# Altium footprint library led_ring.PcbLib: 7 footprints
Each footprint in its own frame and in the unit in brackets; x right, y up, seen from the top. Pads: shape width x height; smd on the part's side, far side on the other; paste and mask are expansions set on the pad; w line width, h text height; cw(c..) or ccw(c..) is an arc to the next point about the centre after c.
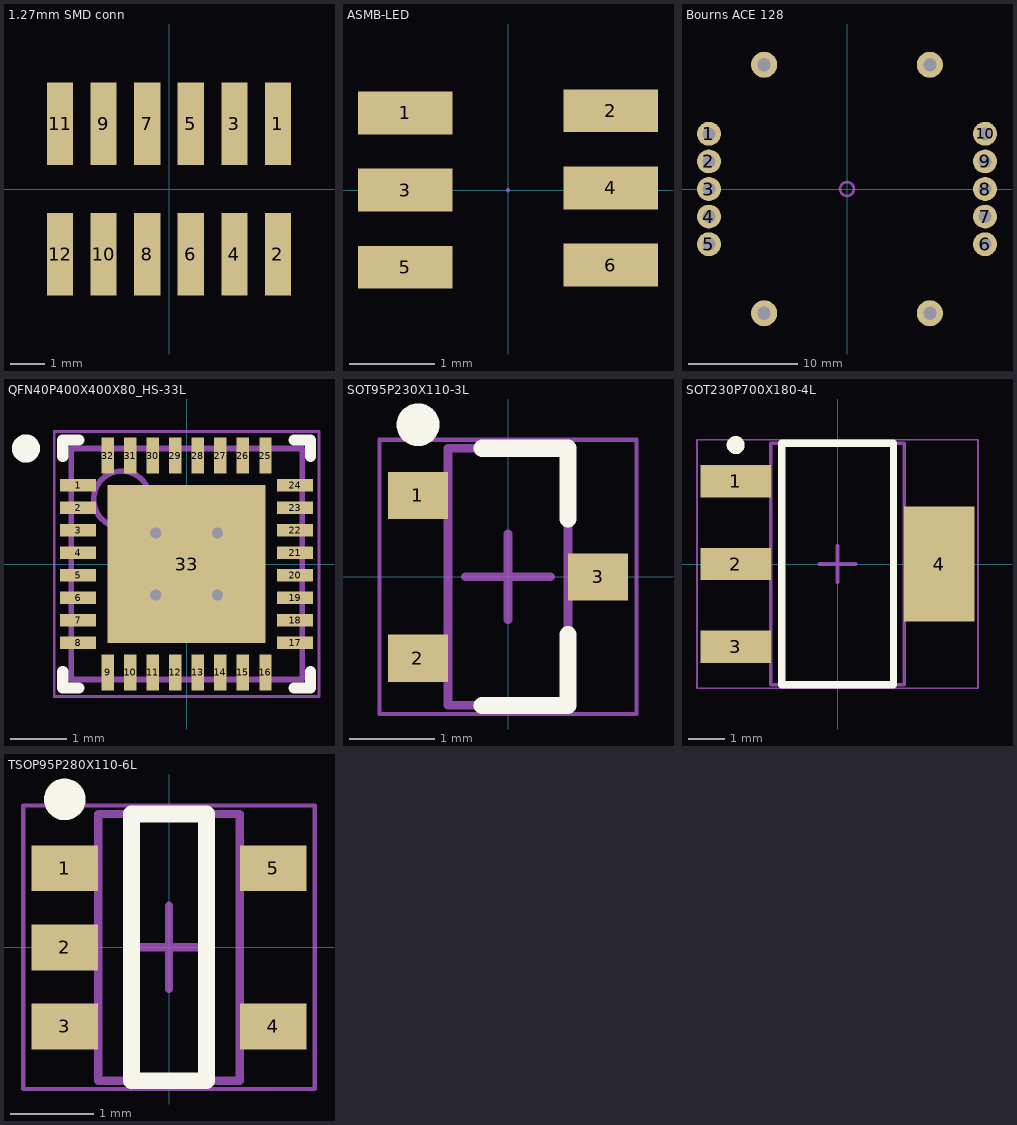
[diagram p0: the footprints below, top view; thin cyan lines are the x and y axes]

## 1.27mm SMD conn [mm]
pads (12):
  rect 0.76x2.4 smd: 1(3.175,1.905) 2(3.175,-1.905) 3(1.905,1.905) 4(1.905,-1.905) 5(0.635,1.905) 6(0.635,-1.905) 7(-0.635,1.905) 8(-0.635,-1.905) 9(-1.905,1.905) 10(-1.905,-1.905) 11(-3.175,1.905) 12(-3.175,-1.905)

## ASMB-LED [mm]
pads (6):
  rect 1.1x0.5 smd: 1(-1.2,0.9) 2(1.2,0.925) 3(-1.2,0) 4(1.2,0.025) 5(-1.2,-0.9) 6(1.2,-0.875)
Mechanical 1:
  lines w0.05: 0,0 0,0
3D body "led.step": height 2.8, standoff 0, extent -1.192,-1.411 1.208,1.389

## Bourns ACE 128 [mm]
pads (14):
  round 2.2 hole 1.2: 1(-12.7,5.08) 2(-12.7,2.54) 3(-12.7,0) 4(-12.7,-2.54) 5(-12.7,-5.08) 6(12.7,-5.08) 7(12.7,-2.54) 8(12.7,0) 9(12.7,2.54) 10(12.7,5.08)
  round 2.4 hole 1.2: ""(-7.62,-11.43) ""(-7.62,11.43) ""(7.62,-11.43) ""(7.62,11.43)
Mechanical 15:
  circle w0.254: c0,0 r0.635
3D body "ace pott v2.step": height 27.55, standoff 0, extent -14,-11.1 13.94,11.1

## QFN40P400X400X80_HS-33L [mm] "QFN, 32-Leads, Body 4,00x4,00mm, Pitch 0,40mm, Thermal Pad 2,80x2,80mm, IPC High Density"
height 0.8
pads (33):
  rect 0.64x0.22 smd: 1(-1.925,1.4) 2(-1.925,1) 3(-1.925,0.6) 4(-1.925,0.2) 5(-1.925,-0.2) 6(-1.925,-0.6) 7(-1.925,-1) 8(-1.925,-1.4) 17(1.925,-1.4) 18(1.925,-1) 19(1.925,-0.6) 20(1.925,-0.2) 21(1.925,0.2) 22(1.925,0.6) 23(1.925,1) 24(1.925,1.4)
  rect 0.22x0.64 smd: 9(-1.4,-1.925) 10(-1,-1.925) 11(-0.6,-1.925) 12(-0.2,-1.925) 13(0.2,-1.925) 14(0.6,-1.925) 15(1,-1.925) 16(1.4,-1.925) 25(1.4,1.925) 26(1,1.925) 27(0.6,1.925) 28(0.2,1.925) 29(-0.2,1.925) 30(-0.6,1.925) 31(-1,1.925) 32(-1.4,1.925)
  rect 2.8x2.8 smd: 33(0,0)
via -0.55,0.55 diameter 0.5 hole 0.2
via 0.55,0.55 diameter 0.5 hole 0.2
via -0.55,-0.55 diameter 0.5 hole 0.2
via 0.55,-0.55 diameter 0.5 hole 0.2
Top Overlay:
  circle w0.25: c-2.85,2.05 r0.125
  lines w0.2: -2.2,-1.91 -2.2,-2.2 -1.91,-2.2 ; -2.2,1.91 -2.2,2.2 -1.91,2.2 ; 1.91,-2.2 2.2,-2.2 2.2,-1.91 ; 1.91,2.2 2.2,2.2 2.2,1.91
Mechanical 13:
  circle w0.1: c-1.15,1.15 r0.5
  lines w0.1: -2.05,-2.05 -2.05,2.05 2.05,2.05 2.05,-2.05 -2.05,-2.05
Mechanical 15:
  lines w0.05: -2.35,-2.35 -2.35,2.35 2.35,2.35 2.35,-2.35 -2.35,-2.35
  lines w0.1: -0.5,0 0.5,0 ; 0,-0.5 0,0.5
3D body "QFN40P400X400X80_HS-33L.step": height 0.8, standoff 0, extent -2.051,-2.051 2.051,2.051

## SOT95P230X110-3L [mm] "SOT23, 3-Leads, Body 2,90x2,30mm, Pitch 0,95mm, IPC High Density"
height 1.1
pads (3):
  rect 0.7x0.55 smd: 1(-1.05,0.95) 2(-1.05,-0.95) 3(1.05,0)
Top Overlay:
  circle w0.25: c-1.05,1.775 r0.125
  lines w0.2: -0.3,-1.5 0.7,-1.5 0.7,-0.675 ; -0.3,1.5 0.7,1.5 0.7,0.675
Mechanical 13:
  lines w0.1: -0.7,-1.5 -0.7,1.5 0.7,1.5 0.7,-1.5 -0.7,-1.5
Mechanical 15:
  lines w0.05: -1.5,-1.6 -1.5,1.6 1.5,1.6 1.5,-1.6 -1.5,-1.6
  lines w0.1: -0.5,0 0.5,0 ; 0,-0.5 0,0.5
3D body "SOT95P230X110-3L.step": height 1.1, standoff 0, extent -1.3,-1.5 1.3,1.5

## SOT230P700X180-4L [mm] "SOT223, 4-Leads, Body 6,50x7,00mm (avg), Pitch 2,30mm, IPC High Density"
height 1.8
pads (4):
  rect 1.95x0.9 smd: 1(-2.825,2.3) 2(-2.825,0) 3(-2.825,-2.3)
  rect 1.95x3.2 smd: 4(2.825,0)
Top Overlay:
  circle w0.25: c-2.825,3.3 r0.125
  lines w0.2: -1.55,-3.35 -1.55,3.35 1.55,3.35 1.55,-3.35 -1.55,-3.35
Mechanical 13:
  lines w0.1: -1.85,-3.35 -1.85,3.35 1.85,3.35 1.85,-3.35 -1.85,-3.35
Mechanical 15:
  lines w0.05: -3.9,-3.45 -3.9,3.45 3.9,3.45 3.9,-3.45 -3.9,-3.45
  lines w0.1: -0.5,0 0.5,0 ; 0,-0.5 0,0.5
3D body "SOT230P700X180-4L.step": height 1.8, standoff 0, extent -3.5,-3.35 3.5,3.35

## TSOP95P280X110-6L [mm] "TSOP, 6-Leads, Body 2,87x1,50mm, Pitch 0,95mm, IPC High Density"
height 1.1
pads (5):
  rect 0.8x0.55 smd: 1(-1.25,0.95) 2(-1.25,0) 3(-1.25,-0.95) 4(1.25,-0.95) 5(1.25,0.95)
Top Overlay:
  circle w0.25: c-1.25,1.775 r0.125
  lines w0.2: -0.45,-1.6 -0.45,1.6 0.45,1.6 0.45,-1.6 -0.45,-1.6
Mechanical 13:
  lines w0.1: -0.85,-1.6 -0.85,1.6 0.85,1.6 0.85,-1.6 -0.85,-1.6
Mechanical 15:
  lines w0.05: -1.75,-1.7 -1.75,1.7 1.75,1.7 1.75,-1.7 -1.75,-1.7
  lines w0.1: -0.5,0 0.5,0 ; 0,-0.5 0,0.5
3D body "TSOP95P280X110-6L.step": height 1.1, standoff 0, extent -1.375,-1.6 1.375,1.6